# Altium schematic symbol library OPA2191IDR.SchLib: 1 symbol
Pins are listed as number, name and electrical type; pins without a type are passive.

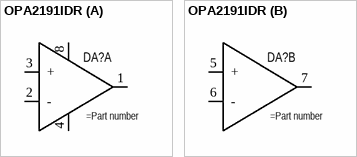
[diagram p0: symbol OPA2191IDR]

## OPA2191IDR
designator DA?
High-precision operational amplifier
part A pins: 1 Out, 2 -, 3 +, 4 GND, 8 Vdd
part B pins: 5 +, 6 -, 7 Out